# Altium footprint library MPZ2012S300AT000.PcbLib: 3 footprints
Each footprint in its own frame and in the unit in brackets; x right, y up, seen from the top. Pads: shape width x height; smd on the part's side, far side on the other; paste and mask are expansions set on the pad; w line width, h text height; cw(c..) or ccw(c..) is an arc to the next point about the centre after c.
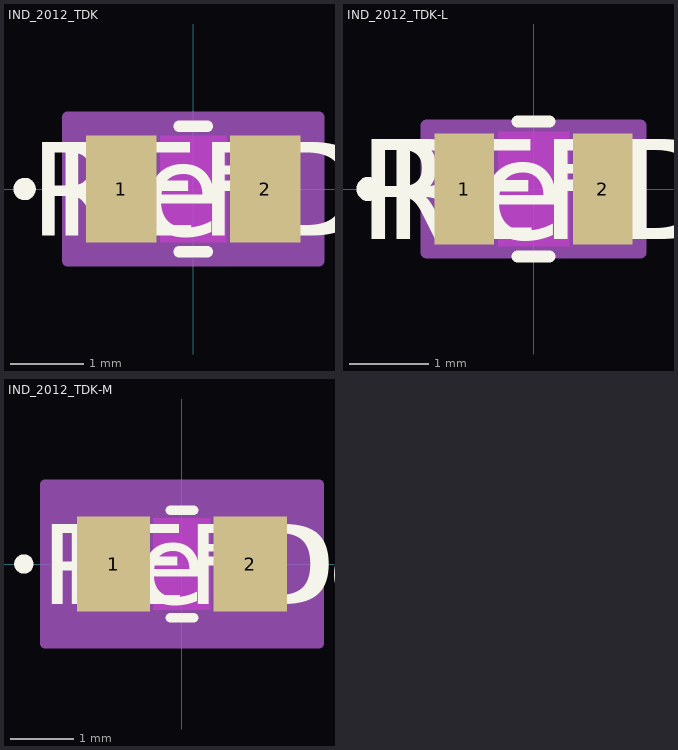
[diagram p0: the footprints below, top view; thin cyan lines are the x and y axes]

## IND_2012_TDK [mm]
pads (2):
  rect 0.956x1.45 smd paste+0 mask+0: 1(-0.978,0) 2(0.978,0)
Top Layer keep-out:
  region: -0.449,-0.674 -0.449,0.674 0.449,0.674 0.449,-0.674
Top Overlay:
  circle w0.152: c-2.294,0 r0.076
  lines w0.152: -0.192,-0.852 0.192,-0.852 ; -0.192,0.852 0.192,0.852
  text "RefDes" at -1.905,-0.635 h1.27
  text "REFDES" at -2.222,-0.635 h1.27
Keep-Out Layer:
  region: -0.449,-0.725 -0.449,0.725 0.449,0.725 0.449,-0.725
Mechanical 13:
  circle w0: c-0.851,0 r0.076
  lines w0.025: -1.1,-0.725 -1.1,0.725 ; -1.1,-0.725 -0.5,-0.725 -0.5,0.725 -1.1,0.725 ; -1.1,-0.725 1.1,-0.725 ; -1.1,-0.725 -1.1,0.725 ; -1.1,0.725 1.1,0.725 ; 1.1,-0.725 0.5,-0.725 0.5,0.725 1.1,0.725 ; 1.1,-0.725 1.1,0.725 ; 1.1,-0.725 1.1,0.725
  text "RefDes2" at -2.222,-0.635 h1.27
Mechanical 15:
  region: 1.71,-0.979 -1.71,-0.979 -1.71,0.979 1.71,0.979
  lines w0.152: -1.71,-0.979 -1.71,0.979 1.71,0.979 1.71,-0.979 -1.71,-0.979
3D body "IND_2012_TDK.step": height 1.1, standoff 0, extent -1.1,-0.725 1.1,0.725

## IND_2012_TDK-L [mm]
pads (2):
  rect 0.752x1.399 smd paste+0 mask+0: 1(-0.876,0) 2(0.876,0)
Top Layer keep-out:
  region: -0.449,-0.674 -0.449,0.674 0.449,0.674 0.449,-0.674
Top Overlay:
  circle w0.152: c-2.091,0 r0.076
  lines w0.152: -0.204,-0.852 0.204,-0.852 ; -0.204,0.852 0.204,0.852
  text "RefDes" at -1.905,-0.635 h1.27
  text "REFDES" at -2.222,-0.635 h1.27
Keep-Out Layer:
  region: -0.449,-0.725 -0.449,0.725 0.449,0.725 0.449,-0.725
Mechanical 13:
  circle w0: c-0.749,0 r0.076
  lines w0.025: -1.1,-0.725 -1.1,0.725 ; -1.1,-0.725 -0.5,-0.725 -0.5,0.725 -1.1,0.725 ; -1.1,-0.725 1.1,-0.725 ; -1.1,-0.725 -1.1,0.725 ; -1.1,0.725 1.1,0.725 ; 1.1,-0.725 0.5,-0.725 0.5,0.725 1.1,0.725 ; 1.1,-0.725 1.1,0.725 ; 1.1,-0.725 1.1,0.725
  text "RefDes2" at -2.222,-0.635 h1.27
Mechanical 15:
  region: 1.354,-0.801 -1.354,-0.801 -1.354,0.801 1.354,0.801
  lines w0.152: -1.354,-0.801 -1.354,0.801 1.354,0.801 1.354,-0.801 -1.354,-0.801
3D body "IND_2012_TDK.step": height 1.1, standoff 0, extent -1.1,-0.725 1.1,0.725

## IND_2012_TDK-M [mm]
pads (2):
  rect 1.159x1.501 smd paste+0 mask+0: 1(-1.079,0) 2(1.079,0)
Top Layer keep-out:
  region: -0.449,-0.674 -0.449,0.674 0.449,0.674 0.449,-0.674
Top Overlay:
  circle w0.152: c-2.497,0 r0.076
  lines w0.152: -0.183,-0.852 0.183,-0.852 ; -0.183,0.852 0.183,0.852
  text "RefDes" at -1.905,-0.635 h1.27
  text "REFDES" at -2.222,-0.635 h1.27
Keep-Out Layer:
  region: -0.449,-0.725 -0.449,0.725 0.449,0.725 0.449,-0.725
Mechanical 13:
  circle w0: c-0.952,0 r0.076
  lines w0.025: -1.1,-0.725 -1.1,0.725 ; -1.1,-0.725 -0.5,-0.725 -0.5,0.725 -1.1,0.725 ; -1.1,-0.725 1.1,-0.725 ; -1.1,-0.725 -1.1,0.725 ; -1.1,0.725 1.1,0.725 ; 1.1,-0.725 0.5,-0.725 0.5,0.725 1.1,0.725 ; 1.1,-0.725 1.1,0.725 ; 1.1,-0.725 1.1,0.725
  text "RefDes2" at -2.222,-0.635 h1.27
Mechanical 15:
  region: 2.167,-1.258 -2.167,-1.258 -2.167,1.258 2.167,1.258
  lines w0.152: -2.167,-1.258 -2.167,1.258 2.167,1.258 2.167,-1.258 -2.167,-1.258
3D body "IND_2012_TDK.step": height 1.1, standoff 0, extent -1.1,-0.725 1.1,0.725